# Altium schematic symbol library 电源器件.SchLib: 1 symbol
Pins are listed as number, name and electrical type; pins without a type are passive.

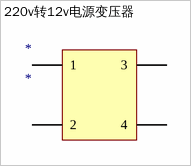
[diagram p0: symbol 220v转12v电源变压器]

## 220v转12v电源变压器
designator *
pins: 1, 2, 3, 4